# Altium footprint library PcbLib1.PcbLib: 12 footprints
Each footprint in its own frame and in the unit in brackets; x right, y up, seen from the top. Pads: shape width x height; smd on the part's side, far side on the other; paste and mask are expansions set on the pad; w line width, h text height; cw(c..) or ccw(c..) is an arc to the next point about the centre after c.
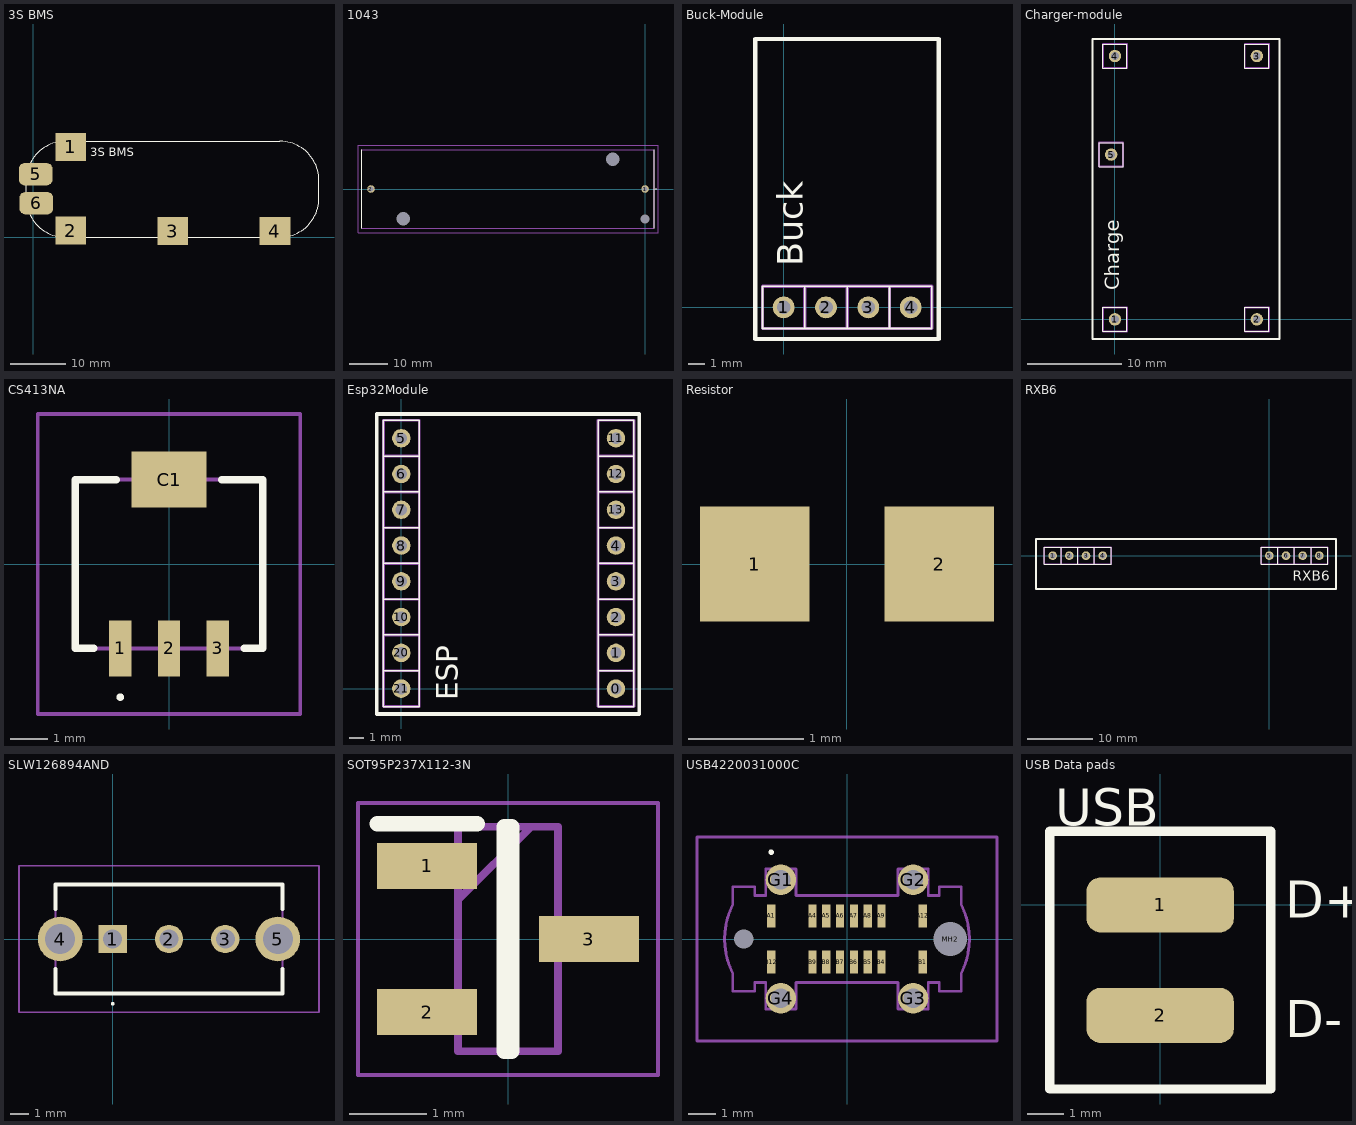
[diagram p0: the footprints below, top view; thin cyan lines are the x and y axes]

## 3S BMS [mm]
pads (6):
  rect 5.5x5 smd: 1(6.7,16.2) 2(6.7,1.2) 3(25,1.1) 4(43.3,1.1)
  rrect50% 6x4 smd: 5(0.4,11.3) 6(0.5,6.1)
Top Overlay:
  lines w0.2: -1.294,7.006 ccw(c5.706,7.006) 5.706,0.006 44.206,0.006 ccw(c44.206,7.006) 51.206,7.006 51.206,10.206 ccw(c44.206,10.206) 44.206,17.206 5.706,17.206 ccw(c5.706,10.206) -1.294,10.206 -1.294,7.006
  text "3S BMS" at 10.154,14.554 h1.52

## 1043 [mm]
pads (5):
  round 1.98 hole 1.32: 1(0,0) 2(-72.22,0)
  round 1.775 hole 3.55 unplated: 3(-63.71,-7.87) 4(-8.51,7.87)
  round 1.195 hole 2.39 unplated: 5(0,-7.87)
Top Overlay:
  lines w0.1: -74.645,-10.325 -74.645,10.325 -74.645,-10.325 ; 2.405,-10.325 2.405,10.325 2.405,-10.325
  lines w0.2: 2.9,-0.1 ccw(c2.9,0) 2.9,0.1 ccw(c2.9,0) 2.9,-0.1
Mechanical 13:
  lines w0.2: -74.645,-10.325 -74.645,10.325 2.405,10.325 2.405,-10.325 -74.645,-10.325
Mechanical 15:
  lines w0.1: -75.645,-11.533 -75.645,11.533 3.405,11.533 3.405,-11.533 -75.645,-11.533
3D body "1043.stp": height 14.95, standoff -3.39, extent -74.647,-10.325 2.407,10.325

## Buck-Module [mm]
pads (4):
  round 1.31 hole 0.81: 1(0,0) 2(2.54,0) 3(5.08,0) 4(7.62,0)
Top Overlay:
  lines w0.1: 1.27,-1.27 -1.27,-1.27 -1.27,1.27 1.27,1.27 ; 1.27,-1.27 1.27,1.27 ; 1.27,-1.27 1.27,1.27 ; 1.27,-1.27 3.81,-1.27 ; 1.27,1.27 3.81,1.27 ; 3.81,-1.27 3.81,1.27 ; 3.81,-1.27 3.81,1.27 ; 3.81,-1.27 6.35,-1.27 ; 3.81,1.27 6.35,1.27 ; 6.35,-1.27 6.35,1.27 ; 6.35,-1.27 6.35,1.27 ; 6.35,-1.27 8.89,-1.27 8.89,1.27 6.35,1.27
  lines w0.254: -1.7,-1.9 9.3,-1.9 9.3,16.1 -1.7,16.1 -1.7,-1.9
  text "Buck" at 1.146,2.454 h1.52
Mechanical 13:
  lines w0.2: 1.27,-1.27 -1.27,-1.27 -1.27,1.27 1.27,1.27 ; 1.27,-1.27 1.27,1.27 ; 1.27,-1.27 1.27,1.27 ; 1.27,-1.27 3.81,-1.27 ; 1.27,1.27 3.81,1.27 ; 3.81,-1.27 3.81,1.27 ; 3.81,-1.27 3.81,1.27 ; 3.81,-1.27 6.35,-1.27 ; 3.81,1.27 6.35,1.27 ; 6.35,-1.27 6.35,1.27 ; 6.35,-1.27 6.35,1.27 ; 6.35,-1.27 8.89,-1.27 8.89,1.27 6.35,1.27

## Charger-module [mm]
pads (5):
  round 1.31 hole 0.81: 1(0,0) 2(15,0) 3(15,27.85) 4(0,27.85) 5(-0.4,17.425)
Top Overlay:
  lines w0.1: -1.67,16.155 0.87,16.155 0.87,18.695 -1.67,18.695 -1.67,16.155 ; -1.27,-1.27 1.27,-1.27 1.27,1.27 -1.27,1.27 -1.27,-1.27 ; -1.27,26.58 -1.27,29.12 1.27,29.12 1.27,26.58 -1.27,26.58 ; 13.73,-1.27 16.27,-1.27 16.27,1.27 13.73,1.27 13.73,-1.27 ; 13.73,26.58 13.73,29.12 16.27,29.12 16.27,26.58 13.73,26.58
  lines w0.254: -2.375,-2.075 17.4,-2.075 17.4,29.65 -2.375,29.65 -2.375,-2.075
  text "Charge" at 0.463,3.054 h1.52
Mechanical 13:
  lines w0.2: -1.67,16.155 0.87,16.155 0.87,18.695 -1.67,18.695 -1.67,16.155 ; -1.27,-1.27 1.27,-1.27 1.27,1.27 -1.27,1.27 -1.27,-1.27 ; -1.27,26.58 -1.27,29.12 1.27,29.12 1.27,26.58 -1.27,26.58 ; 13.73,-1.27 16.27,-1.27 16.27,1.27 13.73,1.27 13.73,-1.27 ; 13.73,26.58 13.73,29.12 16.27,29.12 16.27,26.58 13.73,26.58

## CS413NA [mm]
pads (4):
  rect 0.6x1.5 smd: 1(-1.3,-2.25) 2(0,-2.25) 3(1.3,-2.25)
  rect 2x1.5 smd: C1(0,2.25)
Top Overlay:
  lines w0.1: -1.3,-3.6 cw(c-1.3,-3.55) -1.3,-3.5 cw(c-1.3,-3.55) -1.3,-3.6
  lines w0.2: -2,-2.25 -2.5,-2.25 -2.5,2.25 -1.4,2.25 ; 1.4,2.25 2.5,2.25 2.5,-2.25 2,-2.25
Mechanical 13:
  lines w0.1: -2.5,-2.25 -2.5,2.25 2.5,2.25 2.5,-2.25 -2.5,-2.25
Mechanical 15:
  lines w0.1: -3.5,-4 -3.5,4 3.5,4 3.5,-4 -3.5,-4
3D body "CS-4-13NA.stp": height 2.7, standoff 0, extent -2.5,-2.94 2.5,2.85

## Esp32Module [mm]
pads (16):
  round 1.31 hole 0.81: 0(15.24,0) 1(15.24,2.54) 2(15.24,5.08) 3(15.24,7.62) 4(15.24,10.16) 5(0,17.78) 6(0,15.24) 7(0,12.7) 8(0,10.16) 9(0,7.62) 10(0,5.08) 11(15.24,17.78) 12(15.24,15.24) 13(15.24,12.7) 20(0,2.54) 21(0,0)
Top Overlay:
  lines w0.1: -1.27,1.27 1.27,1.27 ; -1.27,1.27 -1.27,3.81 ; -1.27,1.27 1.27,1.27 ; -1.27,1.27 -1.27,-1.27 1.27,-1.27 1.27,1.27 ; -1.27,3.81 -1.27,6.35 ; -1.27,3.81 1.27,3.81 ; -1.27,3.81 1.27,3.81 ; -1.27,6.35 -1.27,8.89 ; -1.27,6.35 1.27,6.35 ; -1.27,6.35 1.27,6.35 ; -1.27,8.89 -1.27,11.43 ; -1.27,8.89 1.27,8.89 ; -1.27,8.89 1.27,8.89 ; -1.27,11.43 -1.27,13.97 ; -1.27,11.43 1.27,11.43 ; -1.27,11.43 1.27,11.43 ; -1.27,13.97 -1.27,16.51 ; -1.27,13.97 1.27,13.97 ; -1.27,13.97 1.27,13.97 ; -1.27,16.51 -1.27,19.05 1.27,19.05 1.27,16.51 ; -1.27,16.51 1.27,16.51 ; -1.27,16.51 1.27,16.51 ; 1.27,1.27 1.27,3.81 ; 1.27,3.81 1.27,6.35 ; 1.27,6.35 1.27,8.89 ; 1.27,8.89 1.27,11.43 ; 1.27,11.43 1.27,13.97 ; 1.27,13.97 1.27,16.51 ; 13.97,1.27 16.51,1.27 ; 13.97,1.27 13.97,3.81 ; 13.97,1.27 16.51,1.27 ; 13.97,1.27 13.97,-1.27 16.51,-1.27 16.51,1.27 ; 13.97,3.81 13.97,6.35 ; 13.97,3.81 16.51,3.81 ; 13.97,3.81 16.51,3.81 ; 13.97,6.35 13.97,8.89 ; 13.97,6.35 16.51,6.35 ; 13.97,6.35 16.51,6.35 ; 13.97,8.89 13.97,11.43 ; 13.97,8.89 16.51,8.89 ; 13.97,8.89 16.51,8.89 ; 13.97,11.43 13.97,13.97 ; 13.97,11.43 16.51,11.43 ; 13.97,11.43 16.51,11.43 ; 13.97,13.97 13.97,16.51 ; 13.97,13.97 16.51,13.97 ; 13.97,13.97 16.51,13.97 ; 13.97,16.51 13.97,19.05 16.51,19.05 16.51,16.51 ; 13.97,16.51 16.51,16.51 ; 13.97,16.51 16.51,16.51 ; 16.51,1.27 16.51,3.81 ; 16.51,3.81 16.51,6.35 ; 16.51,6.35 16.51,8.89 ; 16.51,8.89 16.51,11.43 ; 16.51,11.43 16.51,13.97 ; 16.51,13.97 16.51,16.51
  lines w0.254: -1.75,-1.8 16.9,-1.8 16.9,19.5 -1.75,19.5 -1.75,-1.8
  text "ESP" at 3.996,-0.821 h1.52
Mechanical 13:
  lines w0.2: -1.27,1.27 1.27,1.27 ; -1.27,1.27 -1.27,3.81 ; -1.27,1.27 -1.27,-1.27 1.27,-1.27 1.27,1.27 ; -1.27,1.27 1.27,1.27 ; -1.27,3.81 -1.27,6.35 ; -1.27,3.81 1.27,3.81 ; -1.27,3.81 1.27,3.81 ; -1.27,6.35 -1.27,8.89 ; -1.27,6.35 1.27,6.35 ; -1.27,6.35 1.27,6.35 ; -1.27,8.89 -1.27,11.43 ; -1.27,8.89 1.27,8.89 ; -1.27,8.89 1.27,8.89 ; -1.27,11.43 -1.27,13.97 ; -1.27,11.43 1.27,11.43 ; -1.27,11.43 1.27,11.43 ; -1.27,13.97 -1.27,16.51 ; -1.27,13.97 1.27,13.97 ; -1.27,13.97 1.27,13.97 ; -1.27,16.51 -1.27,19.05 1.27,19.05 1.27,16.51 ; -1.27,16.51 1.27,16.51 ; -1.27,16.51 1.27,16.51 ; 1.27,1.27 1.27,3.81 ; 1.27,3.81 1.27,6.35 ; 1.27,6.35 1.27,8.89 ; 1.27,8.89 1.27,11.43 ; 1.27,11.43 1.27,13.97 ; 1.27,13.97 1.27,16.51 ; 13.97,1.27 16.51,1.27 ; 13.97,1.27 13.97,3.81 ; 13.97,1.27 13.97,-1.27 16.51,-1.27 16.51,1.27 ; 13.97,1.27 16.51,1.27 ; 13.97,3.81 13.97,6.35 ; 13.97,3.81 16.51,3.81 ; 13.97,3.81 16.51,3.81 ; 13.97,6.35 13.97,8.89 ; 13.97,6.35 16.51,6.35 ; 13.97,6.35 16.51,6.35 ; 13.97,8.89 13.97,11.43 ; 13.97,8.89 16.51,8.89 ; 13.97,8.89 16.51,8.89 ; 13.97,11.43 13.97,13.97 ; 13.97,11.43 16.51,11.43 ; 13.97,11.43 16.51,11.43 ; 13.97,13.97 13.97,16.51 ; 13.97,13.97 16.51,13.97 ; 13.97,13.97 16.51,13.97 ; 13.97,16.51 13.97,19.05 16.51,19.05 16.51,16.51 ; 13.97,16.51 16.51,16.51 ; 13.97,16.51 16.51,16.51 ; 16.51,1.27 16.51,3.81 ; 16.51,3.81 16.51,6.35 ; 16.51,6.35 16.51,8.89 ; 16.51,8.89 16.51,11.43 ; 16.51,11.43 16.51,13.97 ; 16.51,13.97 16.51,16.51

## Resistor [mm]
pads (2):
  rect 0.95x1 smd: 1(-0.8,0) 2(0.8,0)
3D body: height 0.25, standoff 0, extent -0.8,-0.4 0.8,0.4

## RXB6 [mm]
pads (8):
  round 1.31 hole 0.81: 1(-33.02,0) 2(-30.48,0) 3(-27.94,0) 4(-25.4,0) 5(0,0) 6(2.54,0) 7(5.08,0) 8(7.62,0)
Top Overlay:
  lines w0.1: -31.75,-1.27 -31.75,1.27 ; -31.75,-1.27 -29.21,-1.27 ; -31.75,-1.27 -34.29,-1.27 -34.29,1.27 -31.75,1.27 ; -31.75,-1.27 -31.75,1.27 ; -31.75,1.27 -29.21,1.27 ; -29.21,-1.27 -29.21,1.27 ; -29.21,-1.27 -26.67,-1.27 ; -29.21,-1.27 -29.21,1.27 ; -29.21,1.27 -26.67,1.27 ; -26.67,-1.27 -26.67,1.27 ; -26.67,-1.27 -24.13,-1.27 -24.13,1.27 -26.67,1.27 ; -26.67,-1.27 -26.67,1.27 ; 1.27,-1.27 -1.27,-1.27 -1.27,1.27 1.27,1.27 ; 1.27,-1.27 1.27,1.27 ; 1.27,-1.27 1.27,1.27 ; 1.27,-1.27 3.81,-1.27 ; 1.27,1.27 3.81,1.27 ; 3.81,-1.27 3.81,1.27 ; 3.81,-1.27 3.81,1.27 ; 3.81,-1.27 6.35,-1.27 ; 3.81,1.27 6.35,1.27 ; 6.35,-1.27 6.35,1.27 ; 6.35,-1.27 6.35,1.27 ; 6.35,-1.27 8.89,-1.27 8.89,1.27 6.35,1.27
  lines w0.254: -35.56,-5.08 10.16,-5.08 10.16,2.54 -35.56,2.54 -35.56,-5.08
  text "RXB6" at 3.554,-3.846 h1.52
Mechanical 13:
  lines w0.2: -31.75,-1.27 -31.75,1.27 ; -31.75,-1.27 -29.21,-1.27 ; -31.75,-1.27 -34.29,-1.27 -34.29,1.27 -31.75,1.27 ; -31.75,-1.27 -31.75,1.27 ; -31.75,1.27 -29.21,1.27 ; -29.21,-1.27 -29.21,1.27 ; -29.21,-1.27 -26.67,-1.27 ; -29.21,-1.27 -29.21,1.27 ; -29.21,1.27 -26.67,1.27 ; -26.67,-1.27 -26.67,1.27 ; -26.67,-1.27 -24.13,-1.27 -24.13,1.27 -26.67,1.27 ; -26.67,-1.27 -26.67,1.27 ; 1.27,-1.27 -1.27,-1.27 -1.27,1.27 1.27,1.27 ; 1.27,-1.27 1.27,1.27 ; 1.27,-1.27 1.27,1.27 ; 1.27,-1.27 3.81,-1.27 ; 1.27,1.27 3.81,1.27 ; 3.81,-1.27 3.81,1.27 ; 3.81,-1.27 3.81,1.27 ; 3.81,-1.27 6.35,-1.27 ; 3.81,1.27 6.35,1.27 ; 6.35,-1.27 6.35,1.27 ; 6.35,-1.27 6.35,1.27 ; 6.35,-1.27 8.89,-1.27 8.89,1.27 6.35,1.27

## SLW126894AND [mm]
pads (5):
  rect 1.515x1.515 hole 1.01: 1(0,0)
  round 1.515 hole 1.01: 2(3,0) 3(6,0)
  round 2.385 hole 1.59: 4(-2.8,0) 5(8.8,0)
Top Overlay:
  lines w0.1: 0,-3.5 cw(c0,-3.45) 0,-3.4 cw(c0,-3.45) 0,-3.5
  lines w0.2: -3.05,-1.6 -3.05,-2.9 9.05,-2.9 9.05,-1.6 ; -3.05,1.6 -3.05,2.9 9.05,2.9 9.05,1.6
Mechanical 13:
  lines w0.1: -3.05,-2.9 9.05,-2.9 9.05,2.9 -3.05,2.9 -3.05,-2.9
Mechanical 15:
  lines w0.1: -4.992,-3.9 10.992,-3.9 10.992,3.9 -4.992,3.9 -4.992,-3.9
3D body "SLW-12689-4A-N-D.stp": height 9, standoff -3.9, extent -3.004,-3.048 9.1,2.752

## SOT95P237X112-3N [mm]
pads (3):
  rect 1.3x0.6 smd: 1(-1.05,0.95) 2(-1.05,-0.95) 3(1.05,0)
Top Overlay:
  lines w0.2: -1.7,1.5 -0.4,1.5 ; -0.05,-1.46 0.05,-1.46 0.05,1.46 -0.05,1.46 -0.05,-1.46
Mechanical 13:
  lines w0.1: -0.65,0.51 0.3,1.46 ; -0.65,-1.46 0.65,-1.46 0.65,1.46 -0.65,1.46 -0.65,-1.46
Mechanical 15:
  lines w0.05: -1.95,-1.77 1.95,-1.77 1.95,1.77 -1.95,1.77 -1.95,-1.77
3D body "IRLML6344TRPBF.stp": height 1.12, standoff 0, extent -1.185,-1.46 1.185,1.46

## USB4220031000C [mm]
pads (22):
  rect 0.3x0.85 smd: A1(-2.75,0.835) A4(-1.25,0.835) A5(-0.75,0.835) A6(-0.25,0.835) A7(0.25,0.835) A8(0.75,0.835) A9(1.25,0.835) A12(2.75,0.835) B1(2.75,-0.835) B4(1.25,-0.835) B5(0.75,-0.835) B6(0.25,-0.835) B7(-0.25,-0.835) B8(-0.75,-0.835) B9(-1.25,-0.835) B12(-2.75,-0.835)
  round 1.1 hole 0.7: G1(-2.4,2.15) G2(2.4,2.15) G3(2.4,-2.15) G4(-2.4,-2.15)
  round 0.35 hole 0.7 unplated: MH1(-3.75,0)
  round 0.61 hole 1.22 unplated: MH2(3.75,0)
Top Overlay:
  lines w0.1: -2.75,3.1 cw(c-2.75,3.15) -2.75,3.2 cw(c-2.75,3.15) -2.75,3.1
Mechanical 13:
  lines w0.1: -4.25,-1 cw(c-1.75,0) -4.25,1 ; -4.25,-1 -4.15,-1.25 -4.15,-1.9 -3.35,-1.9 -3.35,-1.58 -2.95,-1.58 -2.95,-2.54 -1.85,-2.54 -1.85,-1.58 0,-1.58 1.85,-1.58 1.85,-2.54 2.95,-2.54 2.95,-1.58 3.35,-1.58 3.35,-1.9 4.15,-1.9 4.15,-1.25 4.25,-1 ; -4.25,1 -4.15,1.25 -4.15,1.9 -3.35,1.9 -3.35,1.58 -2.95,1.58 -2.95,2.54 -1.85,2.54 -1.85,1.58 1.85,1.58 1.85,2.54 2.95,2.54 2.95,1.58 3.35,1.58 3.35,1.9 4.15,1.9 4.15,1.25 4.25,1 ; 4.25,-1 ccw(c1.75,0) 4.25,1
Mechanical 15:
  lines w0.1: -5.443,-3.7 5.443,-3.7 5.443,3.7 -5.443,3.7 -5.443,-3.7
3D body "USB4220-03-1000-C.stp": height 0.1, standoff -5, extent -4,-2.398 4.26,2.398

## USB Data pads [mm]
pads (2):
  rrect50% 4x1.5 smd: 1(0,0) 2(0,-3)
Top Overlay:
  lines w0.254: -3,-5 3,-5 3,2 -3,2 -3,-5
  text "D-" at 3.4,-3.6 h1
  text "D+" at 3.4,-0.35 h1
  text "USB" at -2.85,2.15 h1